# EAGLE library part MCP23008 (library Misaka-IC)
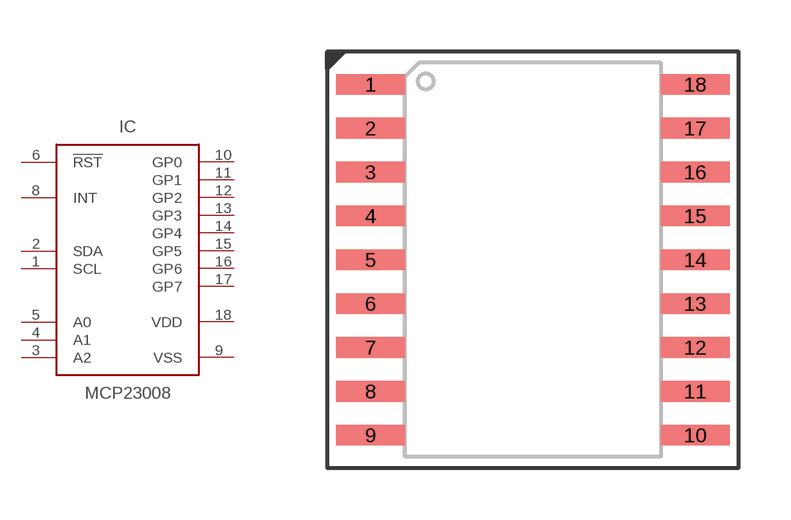
[diagram p15: symbol with the pads of SO-18W; footprint SO-18W]

Designator prefix IC

## MCP23008/SO  [SO-18W]
1  SCL  in
2  SDA  in
3  A2  in
4  A1  in
5  A0  in
6  !RST  in
8  INT  in
9  VSS  in
10  GP0  in
11  GP1  in
12  GP2  in
13  GP3  in
14  GP4  in
15  GP5  in
16  GP6  in
17  GP7  in
18  VDD  in

## Footprint SO-18W (pad centres in mm)
smd 2 x 0.6: 1 -4.7,5.08; 2 -4.7,3.81; 3 -4.7,2.54; 4 -4.7,1.27; 5 -4.7,0; 6 -4.7,-1.27; 7 -4.7,-2.54; 8 -4.7,-3.81; 9 -4.7,-5.08; 10 4.7,-5.08; 11 4.7,-3.81; 12 4.7,-2.54; 13 4.7,-1.27; 14 4.7,0; 15 4.7,1.27; 16 4.7,2.54; 17 4.7,3.81; 18 4.7,5.08